# Altium schematic symbol library radxa_cm5_io_board_v2200_SCH-1_Library.SchLib: 112 symbols
Pins are listed as number, name and electrical type; pins without a type are passive.

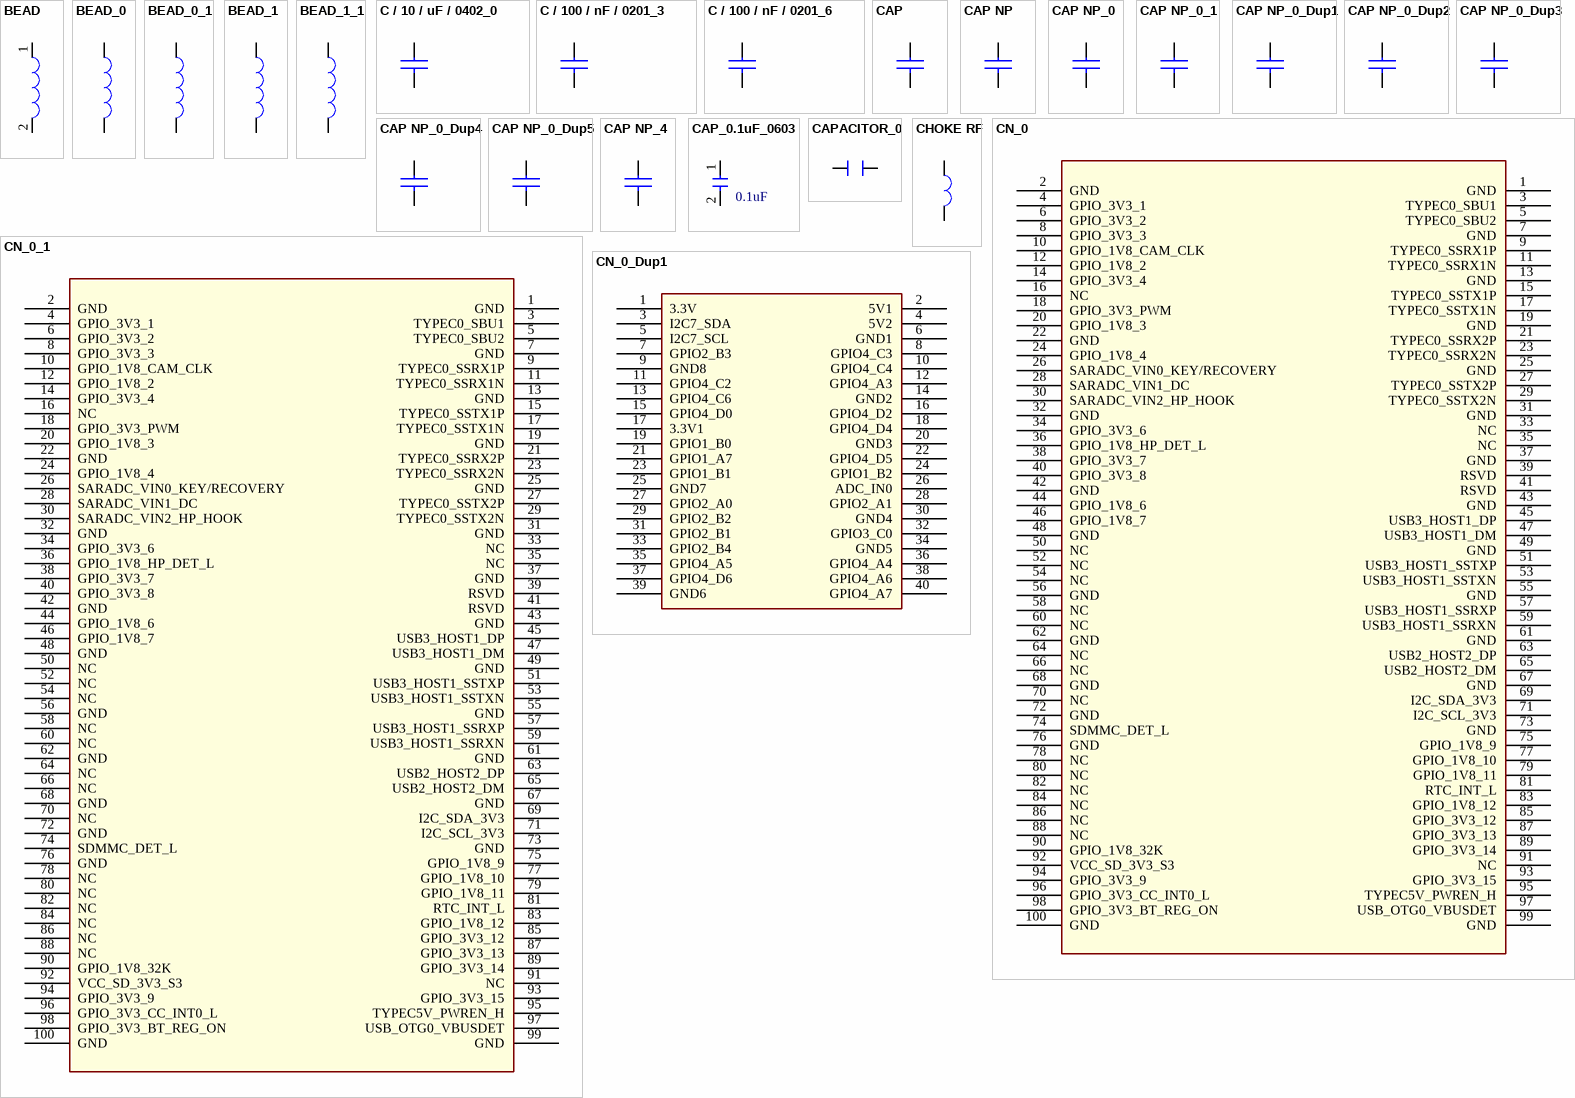
[diagram p0: symbols BEAD to CN_0_Dup1]

## BEAD
designator FB?
pins: 1, 2

## BEAD_0
designator FB?
pins: 1, 2

## BEAD_0_1
designator FB?
pins: 1, 2

## BEAD_1
designator FB?
pins: 1, 2

## BEAD_1_1
designator FB?
pins: 1, 2

## C / 10 / uF / 0402_0
designator C?
footprint C0402
pins: 1, 2

## C / 100 / nF / 0201_3
designator C?
footprint C0201
pins: 1, 2

## C / 100 / nF / 0201_6
designator C?
footprint C0201
pins: 1, 2

## CAP
designator C?
pins: 1, 2

## CAP NP
designator C?
footprint C0402
pins: 1, 2

## CAP NP_0
designator C?
pins: 1, 2

## CAP NP_0_1
designator C?
pins: 1, 2

## CAP NP_0_Dup1
designator C?
pins: 1, 2

## CAP NP_0_Dup2
designator C?
pins: 1, 2

## CAP NP_0_Dup3
designator C?
pins: 1, 2

## CAP NP_0_Dup4
designator C?
pins: 1, 2

## CAP NP_0_Dup5
designator C?
pins: 1, 2

## CAP NP_4
designator C?
pins: 1, 2

## CAP_0.1uF_0603
designator CB?, comment 0.1uF
footprint C0603
pins: 1, 2

## CAPACITOR_0
designator C?
pins: 1, 2

## CHOKE RF
designator L?
pins: 1, 2

## CN_0
designator CN?
pins: 1 GND, 2 GND, 3 TYPEC0_SBU1, 4 GPIO_3V3_1, 5 TYPEC0_SBU2, 6 GPIO_3V3_2, 7 GND, 8 GPIO_3V3_3, 9 TYPEC0_SSRX1P, 10 GPIO_1V8_CAM_CLK, 11 TYPEC0_SSRX1N, 12 GPIO_1V8_2, 13 GND, 14 GPIO_3V3_4, 15 TYPEC0_SSTX1P, 16 NC, 17 TYPEC0_SSTX1N, 18 GPIO_3V3_PWM, 19 GND, 20 GPIO_1V8_3, 21 TYPEC0_SSRX2P, 22 GND, 23 TYPEC0_SSRX2N, 24 GPIO_1V8_4, 25 GND, 26 SARADC_VIN0_KEY/RECOVERY, 27 TYPEC0_SSTX2P, 28 SARADC_VIN1_DC, 29 TYPEC0_SSTX2N, 30 SARADC_VIN2_HP_HOOK, 31 GND, 32 GND, 33 NC, 34 GPIO_3V3_6, 35 NC, 36 GPIO_1V8_HP_DET_L, 37 GND, 38 GPIO_3V3_7, 39 RSVD, 40 GPIO_3V3_8, 41 RSVD, 42 GND, 43 GND, 44 GPIO_1V8_6, 45 USB3_HOST1_DP, 46 GPIO_1V8_7, 47 USB3_HOST1_DM, 48 GND, 49 GND, 50 NC, 51 USB3_HOST1_SSTXP, 52 NC, 53 USB3_HOST1_SSTXN, 54 NC, 55 GND, 56 GND, 57 USB3_HOST1_SSRXP, 58 NC, 59 USB3_HOST1_SSRXN, 60 NC, 61 GND, 62 GND, 63 USB2_HOST2_DP, 64 NC, 65 USB2_HOST2_DM, 66 NC, 67 GND, 68 GND, 69 I2C_SDA_3V3, 70 NC, 71 I2C_SCL_3V3, 72 GND, 73 GND, 74 SDMMC_DET_L, 75 GPIO_1V8_9, 76 GND, 77 GPIO_1V8_10, 78 NC, 79 GPIO_1V8_11, 80 NC, 81 RTC_INT_L, 82 NC, 83 GPIO_1V8_12, 84 NC, 85 GPIO_3V3_12, 86 NC, 87 GPIO_3V3_13, 88 NC, 89 GPIO_3V3_14, 90 GPIO_1V8_32K, 91 NC, 92 VCC_SD_3V3_S3, 93 GPIO_3V3_15, 94 GPIO_3V3_9, 95 TYPEC5V_PWREN_H, 96 GPIO_3V3_CC_INT0_L, 97 USB_OTG0_VBUSDET, 98 GPIO_3V3_BT_REG_ON, 99 GND, 100 GND

## CN_0_1
designator CN?
pins: 1 GND, 2 GND, 3 TYPEC0_SBU1, 4 GPIO_3V3_1, 5 TYPEC0_SBU2, 6 GPIO_3V3_2, 7 GND, 8 GPIO_3V3_3, 9 TYPEC0_SSRX1P, 10 GPIO_1V8_CAM_CLK, 11 TYPEC0_SSRX1N, 12 GPIO_1V8_2, 13 GND, 14 GPIO_3V3_4, 15 TYPEC0_SSTX1P, 16 NC, 17 TYPEC0_SSTX1N, 18 GPIO_3V3_PWM, 19 GND, 20 GPIO_1V8_3, 21 TYPEC0_SSRX2P, 22 GND, 23 TYPEC0_SSRX2N, 24 GPIO_1V8_4, 25 GND, 26 SARADC_VIN0_KEY/RECOVERY, 27 TYPEC0_SSTX2P, 28 SARADC_VIN1_DC, 29 TYPEC0_SSTX2N, 30 SARADC_VIN2_HP_HOOK, 31 GND, 32 GND, 33 NC, 34 GPIO_3V3_6, 35 NC, 36 GPIO_1V8_HP_DET_L, 37 GND, 38 GPIO_3V3_7, 39 RSVD, 40 GPIO_3V3_8, 41 RSVD, 42 GND, 43 GND, 44 GPIO_1V8_6, 45 USB3_HOST1_DP, 46 GPIO_1V8_7, 47 USB3_HOST1_DM, 48 GND, 49 GND, 50 NC, 51 USB3_HOST1_SSTXP, 52 NC, 53 USB3_HOST1_SSTXN, 54 NC, 55 GND, 56 GND, 57 USB3_HOST1_SSRXP, 58 NC, 59 USB3_HOST1_SSRXN, 60 NC, 61 GND, 62 GND, 63 USB2_HOST2_DP, 64 NC, 65 USB2_HOST2_DM, 66 NC, 67 GND, 68 GND, 69 I2C_SDA_3V3, 70 NC, 71 I2C_SCL_3V3, 72 GND, 73 GND, 74 SDMMC_DET_L, 75 GPIO_1V8_9, 76 GND, 77 GPIO_1V8_10, 78 NC, 79 GPIO_1V8_11, 80 NC, 81 RTC_INT_L, 82 NC, 83 GPIO_1V8_12, 84 NC, 85 GPIO_3V3_12, 86 NC, 87 GPIO_3V3_13, 88 NC, 89 GPIO_3V3_14, 90 GPIO_1V8_32K, 91 NC, 92 VCC_SD_3V3_S3, 93 GPIO_3V3_15, 94 GPIO_3V3_9, 95 TYPEC5V_PWREN_H, 96 GPIO_3V3_CC_INT0_L, 97 USB_OTG0_VBUSDET, 98 GPIO_3V3_BT_REG_ON, 99 GND, 100 GND

## CN_0_Dup1
designator CN?
pins: 1 3.3V, 2 5V1, 3 I2C7_SDA, 4 5V2, 5 I2C7_SCL, 6 GND1, 7 GPIO2_B3, 8 GPIO4_C3, 9 GND8, 10 GPIO4_C4, 11 GPIO4_C2, 12 GPIO4_A3, 13 GPIO4_C6, 14 GND2, 15 GPIO4_D0, 16 GPIO4_D2, 17 3.3V1, 18 GPIO4_D4, 19 GPIO1_B0, 20 GND3, 21 GPIO1_A7, 22 GPIO4_D5, 23 GPIO1_B1, 24 GPIO1_B2, 25 GND7, 26 ADC_IN0, 27 GPIO2_A0, 28 GPIO2_A1, 29 GPIO2_B2, 30 GND4, 31 GPIO2_B1, 32 GPIO3_C0, 33 GPIO2_B4, 34 GND5, 35 GPIO4_A5, 36 GPIO4_A4, 37 GPIO4_D6, 38 GPIO4_A6, 39 GND6, 40 GPIO4_A7

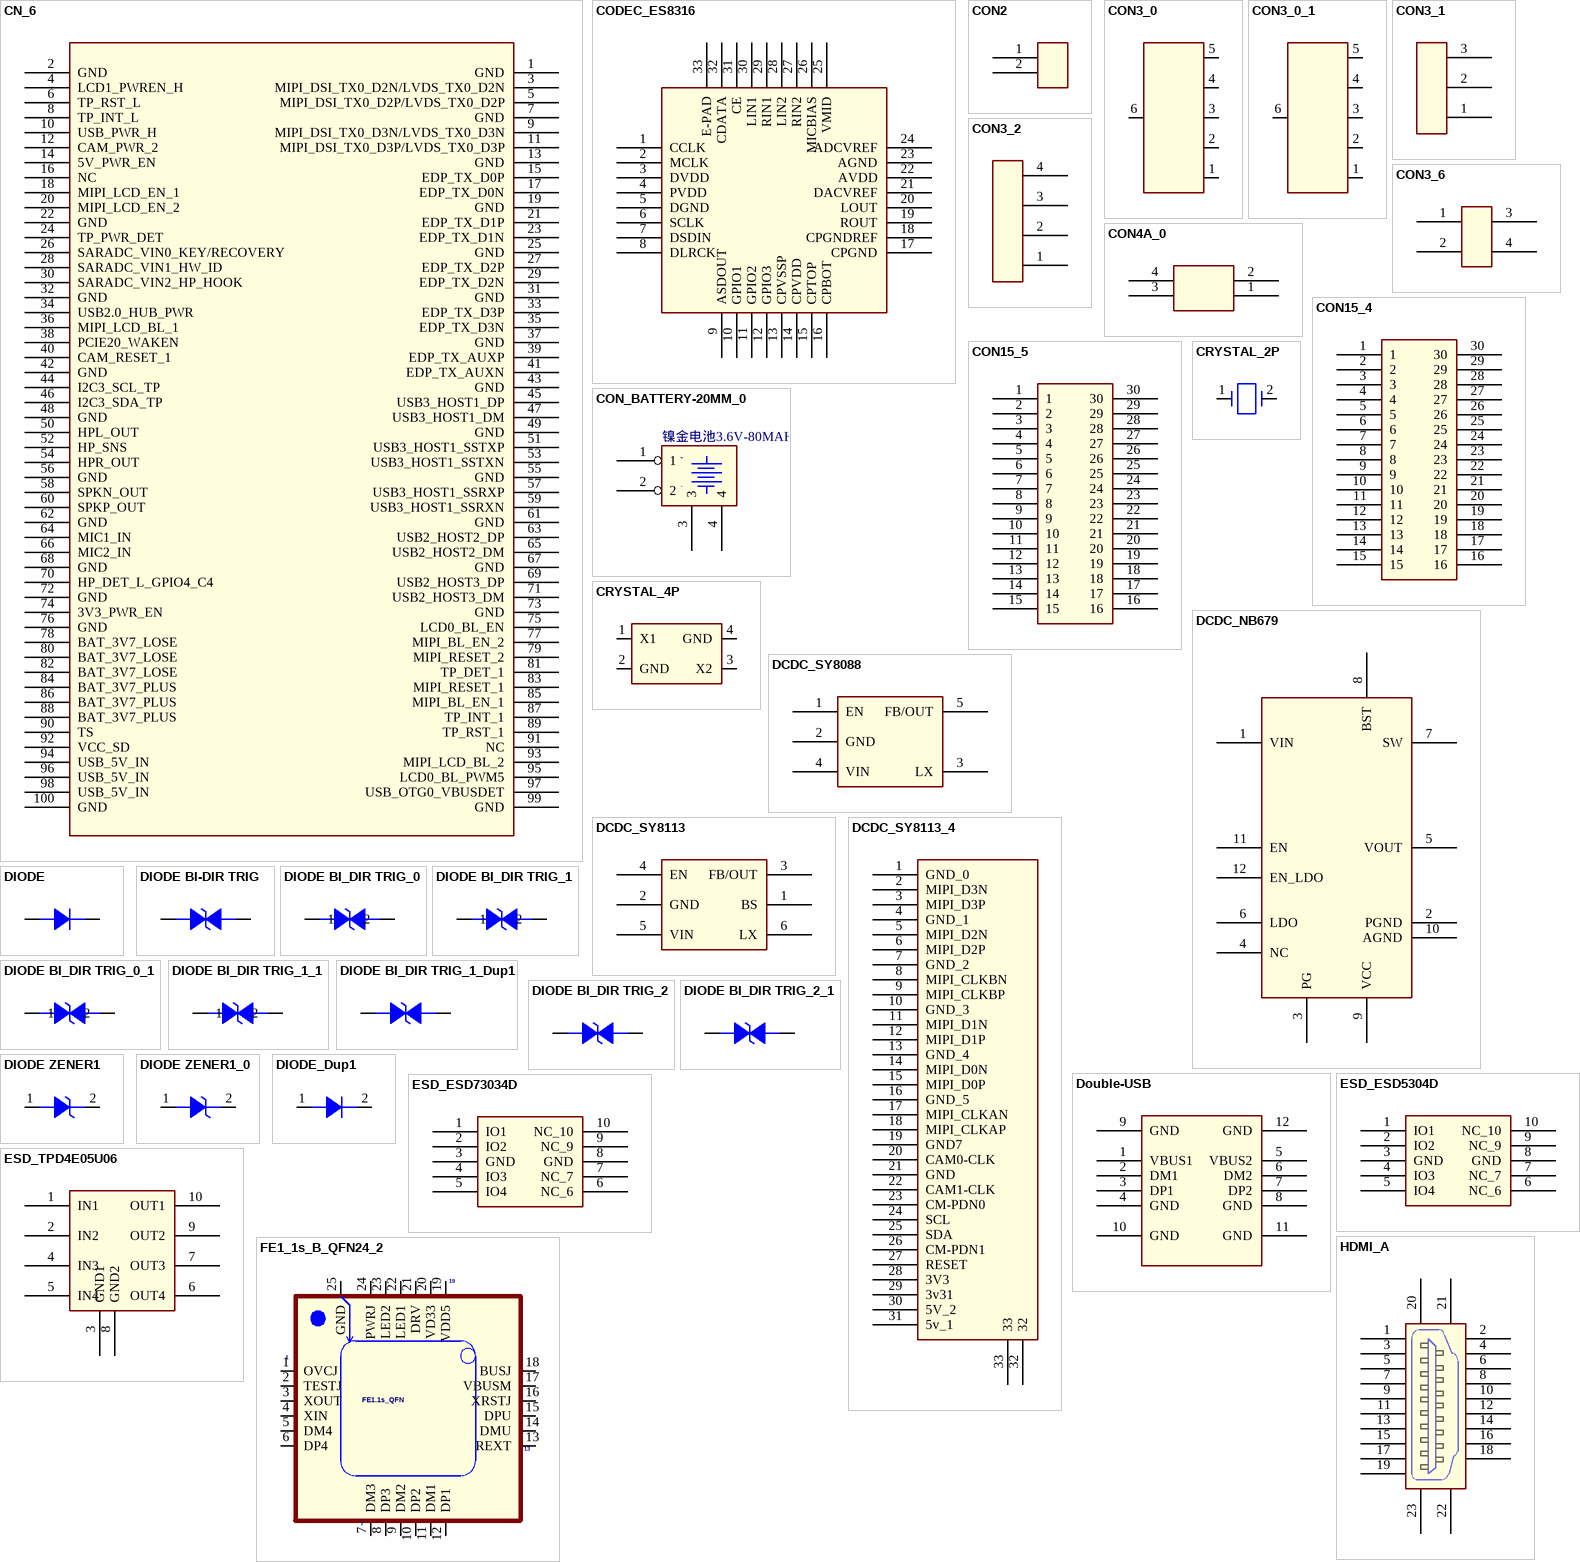
[diagram p1: symbols CN_6 to HDMI_A]

## CN_6
designator CN?
pins: 1 GND, 2 GND, 3 MIPI_DSI_TX0_D2N/LVDS_TX0_D2N, 4 LCD1_PWREN_H, 5 MIPI_DSI_TX0_D2P/LVDS_TX0_D2P, 6 TP_RST_L, 7 GND, 8 TP_INT_L, 9 MIPI_DSI_TX0_D3N/LVDS_TX0_D3N, 10 USB_PWR_H, 11 MIPI_DSI_TX0_D3P/LVDS_TX0_D3P, 12 CAM_PWR_2, 13 GND, 14 5V_PWR_EN, 15 EDP_TX_D0P, 16 NC, 17 EDP_TX_D0N, 18 MIPI_LCD_EN_1, 19 GND, 20 MIPI_LCD_EN_2, 21 EDP_TX_D1P, 22 GND, 23 EDP_TX_D1N, 24 TP_PWR_DET, 25 GND, 26 SARADC_VIN0_KEY/RECOVERY, 27 EDP_TX_D2P, 28 SARADC_VIN1_HW_ID, 29 EDP_TX_D2N, 30 SARADC_VIN2_HP_HOOK, 31 GND, 32 GND, 33 EDP_TX_D3P, 34 USB2.0_HUB_PWR, 35 EDP_TX_D3N, 36 MIPI_LCD_BL_1, 37 GND, 38 PCIE20_WAKEN, 39 EDP_TX_AUXP, 40 CAM_RESET_1, 41 EDP_TX_AUXN, 42 GND, 43 GND, 44 I2C3_SCL_TP, 45 USB3_HOST1_DP, 46 I2C3_SDA_TP, 47 USB3_HOST1_DM, 48 GND, 49 GND, 50 HPL_OUT, 51 USB3_HOST1_SSTXP, 52 HP_SNS, 53 USB3_HOST1_SSTXN, 54 HPR_OUT, 55 GND, 56 GND, 57 USB3_HOST1_SSRXP, 58 SPKN_OUT, 59 USB3_HOST1_SSRXN, 60 SPKP_OUT, 61 GND, 62 GND, 63 USB2_HOST2_DP, 64 MIC1_IN, 65 USB2_HOST2_DM, 66 MIC2_IN, 67 GND, 68 GND, 69 USB2_HOST3_DP, 70 HP_DET_L_GPIO4_C4, 71 USB2_HOST3_DM, 72 GND, 73 GND, 74 3V3_PWR_EN, 75 LCD0_BL_EN, 76 GND, 77 MIPI_BL_EN_2, 78 BAT_3V7_LOSE, 79 MIPI_RESET_2, 80 BAT_3V7_LOSE, 81 TP_DET_1, 82 BAT_3V7_LOSE, 83 MIPI_RESET_1, 84 BAT_3V7_PLUS, 85 MIPI_BL_EN_1, 86 BAT_3V7_PLUS, 87 TP_INT_1, 88 BAT_3V7_PLUS, 89 TP_RST_1, 90 TS, 91 NC, 92 VCC_SD, 93 MIPI_LCD_BL_2, 94 USB_5V_IN, 95 LCD0_BL_PWM5, 96 USB_5V_IN, 97 USB_OTG0_VBUSDET, 98 USB_5V_IN, 99 GND, 100 GND

## CODEC_ES8316
designator U?
pins: 1 CCLK, 2 MCLK, 3 DVDD, 4 PVDD, 5 DGND, 6 SCLK, 7 DSDIN, 8 DLRCK, 9 ASDOUT, 10 GPIO1, 11 GPIO2, 12 GPIO3, 13 CPVSSP, 14 CPVDD, 15 CPTOP, 16 CPBOT, 17 CPGND, 18 CPGNDREF, 19 ROUT, 20 LOUT, 21 DACVREF, 22 AVDD, 23 AGND, 24 ADCVREF, 25 VMID, 26 MICBIAS, 27 RIN2, 28 LIN2, 29 RIN1, 30 LIN1, 31 CE, 32 CDATA, 33 E-PAD

## CON2
designator J?
pins: 1, 2

## CON3_0
designator J?
pins: 1, 2, 3, 4, 5, 6

## CON3_0_1
designator J?
pins: 1, 2, 3, 4, 5, 6

## CON3_1
designator J?
pins: 1, 2, 3

## CON3_2
designator J?
pins: 1, 2, 3, 4

## CON3_6
designator J?
pins: 1, 2, 3, 4

## CON4A_0
designator J?
pins: 1, 2, 3, 4

## CON15_4
designator J?
pins: 1, 2, 3, 4, 5, 6, 7, 8, 9, 10, 11, 12, 13, 14, 15, 16, 17, 18, 19, 20, 21, 22, 23, 24, 25, 26, 27, 28, 29, 30

## CON15_5
designator J?
pins: 1, 2, 3, 4, 5, 6, 7, 8, 9, 10, 11, 12, 13, 14, 15, 16, 17, 18, 19, 20, 21, 22, 23, 24, 25, 26, 27, 28, 29, 30

## CON_BATTERY-20MM_0
designator U?, comment 镍金电池3.6V-80MAH
footprint BATTERY-20MM
pins: 1, 2, 3, 4
text: +; -

## CRYSTAL_2P
designator Y?
pins: 1, 2

## CRYSTAL_4P
designator Y?
footprint CRY-3225
pins: 1 X1, 2 GND (power), 3 X2, 4 GND (power)

## DCDC_NB679
designator U?
footprint QFN12_3R00X2R00X0R90
pins: 1 VIN, 2 PGND, 3 PG, 4 NC, 5 VOUT, 6 LDO, 7 SW, 8 BST, 9 VCC, 10 AGND, 11 EN, 12 EN_LDO

## DCDC_SY8088
designator U?
pins: 1 EN, 2 GND, 3 LX, 4 VIN, 5 FB/OUT

## DCDC_SY8113
designator U?
pins: 1 BS, 2 GND, 3 FB/OUT, 4 EN, 5 VIN, 6 LX

## DCDC_SY8113_4
designator U?
pins: 1 GND_0, 2 MIPI_D3N, 3 MIPI_D3P, 4 GND_1, 5 MIPI_D2N, 6 MIPI_D2P, 7 GND_2, 8 MIPI_CLKBN, 9 MIPI_CLKBP, 10 GND_3, 11 MIPI_D1N, 12 MIPI_D1P, 13 GND_4, 14 MIPI_D0N, 15 MIPI_D0P, 16 GND_5, 17 MIPI_CLKAN, 18 MIPI_CLKAP, 19 GND7, 20 CAM0-CLK, 21 GND, 22 CAM1-CLK, 23 CM-PDN0, 24 SCL, 25 SDA, 26 CM-PDN1, 27 RESET, 28 3V3, 29 3v31, 30 5V_2, 31 5v_1, 32, 33

## DIODE
designator D?
pins: 1 A, 2 K

## DIODE BI-DIR TRIG
designator D?
pins: 1, 2

## DIODE BI_DIR TRIG_0
designator ED?
pins: 1, 2

## DIODE BI_DIR TRIG_0_1
designator ED?
pins: 1, 2

## DIODE BI_DIR TRIG_1
designator ED?
pins: 1, 2

## DIODE BI_DIR TRIG_1_1
designator ED?
pins: 1, 2

## DIODE BI_DIR TRIG_1_Dup1
designator ED?
pins: 1, 2

## DIODE BI_DIR TRIG_2
designator ED?
pins: 1, 2

## DIODE BI_DIR TRIG_2_1
designator ED?
pins: 1, 2

## DIODE ZENER1
designator D?
pins: 1 ANODE, 2 CATHODE

## DIODE ZENER1_0
designator D?
pins: 1 ANODE, 2 CATHODE

## DIODE_Dup1
designator D?
pins: 1 A, 2 K

## Double-USB
designator U?
footprint USB_DUAL
pins: 1 VBUS1, 2 DM1, 3 DP1, 4 GND, 5 VBUS2, 6 DM2, 7 DP2, 8 GND, 9 GND, 10 GND, 11 GND, 12 GND

## ESD_ESD5304D
designator U?
pins: 1 IO1, 2 IO2, 3 GND (power), 4 IO3, 5 IO4, 6 NC_6, 7 NC_7, 8 GND (power), 9 NC_9, 10 NC_10

## ESD_ESD73034D
designator U?
pins: 1 IO1, 2 IO2, 3 GND (power), 4 IO3, 5 IO4, 6 NC_6, 7 NC_7, 8 GND (power), 9 NC_9, 10 NC_10

## ESD_TPD4E05U06
designator U?
pins: 1 IN1, 2 IN2, 3 GND1, 4 IN3, 5 IN4, 6 OUT4, 7 OUT3, 8 GND2, 9 OUT2, 10 OUT1

## FE1_1s_B_QFN24_2
designator U?, comment FE1.1s_QFN
pins: 1 OVCJ, 2 TESTJ, 3 XOUT, 4 XIN, 5 DM4, 6 DP4, 7 DM3, 8 DP3, 9 DM2, 10 DP2, 11 DM1, 12 DP1, 13 REXT, 14 DMU, 15 DPU, 16 XRSTJ, 17 VBUSM, 18 BUSJ, 19 VDD5, 20 VD33, 21 DRV, 22 LED1, 23 LED2, 24 PWRJ, 25 GND (power)

## HDMI_A
designator J?
pins: 1 $PIN0, 2, 3, 4, 5, 6, 7, 8, 9, 10, 11, 12, 13, 14, 15, 16, 17, 18, 19, 20, 21, 22, 23

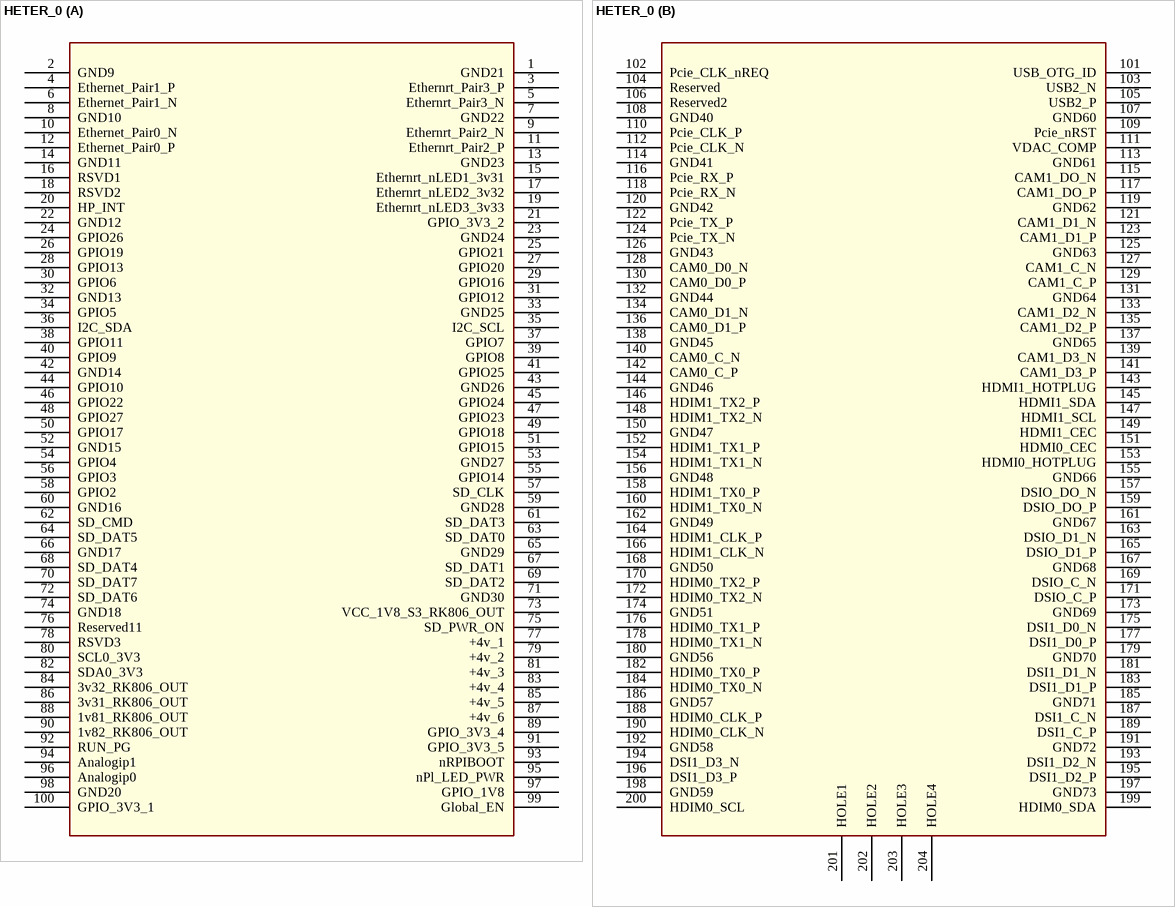
[diagram p2: symbol HETER_0]

## HETER_0
designator U?
part A pins: 1 GND21, 2 GND9, 3 Ethernrt_Pair3_P, 4 Ethernet_Pair1_P, 5 Ethernrt_Pair3_N, 6 Ethernet_Pair1_N, 7 GND22, 8 GND10, 9 Ethernrt_Pair2_N, 10 Ethernet_Pair0_N, 11 Ethernrt_Pair2_P, 12 Ethernet_Pair0_P, 13 GND23, 14 GND11, 15 Ethernrt_nLED1_3v31, 16 RSVD1, 17 Ethernrt_nLED2_3v32, 18 RSVD2, 19 Ethernrt_nLED3_3v33, 20 HP_INT, 21 GPIO_3V3_2, 22 GND12, 23 GND24, 24 GPIO26, 25 GPIO21, 26 GPIO19, 27 GPIO20, 28 GPIO13, 29 GPIO16, 30 GPIO6, 31 GPIO12, 32 GND13, 33 GND25, 34 GPIO5, 35 I2C_SCL, 36 I2C_SDA, 37 GPIO7, 38 GPIO11, 39 GPIO8, 40 GPIO9, 41 GPIO25, 42 GND14, 43 GND26, 44 GPIO10, 45 GPIO24, 46 GPIO22, 47 GPIO23, 48 GPIO27, 49 GPIO18, 50 GPIO17, 51 GPIO15, 52 GND15, 53 GND27, 54 GPIO4, 55 GPIO14, 56 GPIO3, 57 SD_CLK, 58 GPIO2, 59 GND28, 60 GND16, 61 SD_DAT3, 62 SD_CMD, 63 SD_DAT0, 64 SD_DAT5, 65 GND29, 66 GND17, 67 SD_DAT1, 68 SD_DAT4, 69 SD_DAT2, 70 SD_DAT7, 71 GND30, 72 SD_DAT6, 73 VCC_1V8_S3_RK806_OUT, 74 GND18, 75 SD_PWR_ON, 76 Reserved11, 77 +4v_1, 78 RSVD3, 79 +4v_2, 80 SCL0_3V3, 81 +4v_3, 82 SDA0_3V3, 83 +4v_4, 84 3v32_RK806_OUT, 85 +4v_5, 86 3v31_RK806_OUT, 87 +4v_6, 88 1v81_RK806_OUT, 89 GPIO_3V3_4, 90 1v82_RK806_OUT, 91 GPIO_3V3_5, 92 RUN_PG, 93 nRPIBOOT, 94 Analogip1, 95 nPl_LED_PWR, 96 Analogip0, 97 GPIO_1V8, 98 GND20, 99 Global_EN, 100 GPIO_3V3_1
part B pins: 101 USB_OTG_ID, 102 Pcie_CLK_nREQ, 103 USB2_N, 104 Reserved, 105 USB2_P, 106 Reserved2, 107 GND60, 108 GND40, 109 Pcie_nRST, 110 Pcie_CLK_P, 111 VDAC_COMP, 112 Pcie_CLK_N, 113 GND61, 114 GND41, 115 CAM1_DO_N, 116 Pcie_RX_P, 117 CAM1_DO_P, 118 Pcie_RX_N, 119 GND62, 120 GND42, 121 CAM1_D1_N, 122 Pcie_TX_P, 123 CAM1_D1_P, 124 Pcie_TX_N, 125 GND63, 126 GND43, 127 CAM1_C_N, 128 CAM0_D0_N, 129 CAM1_C_P, 130 CAM0_D0_P, 131 GND64, 132 GND44, 133 CAM1_D2_N, 134 CAM0_D1_N, 135 CAM1_D2_P, 136 CAM0_D1_P, 137 GND65, 138 GND45, 139 CAM1_D3_N, 140 CAM0_C_N, 141 CAM1_D3_P, 142 CAM0_C_P, 143 HDMI1_HOTPLUG, 144 GND46, 145 HDMI1_SDA, 146 HDIM1_TX2_P, 147 HDMI1_SCL, 148 HDIM1_TX2_N, 149 HDMI1_CEC, 150 GND47, 151 HDMI0_CEC, 152 HDIM1_TX1_P, 153 HDMI0_HOTPLUG, 154 HDIM1_TX1_N, 155 GND66, 156 GND48, 157 DSIO_DO_N, 158 HDIM1_TX0_P, 159 DSIO_DO_P, 160 HDIM1_TX0_N, 161 GND67, 162 GND49, 163 DSIO_D1_N, 164 HDIM1_CLK_P, 165 DSIO_D1_P, 166 HDIM1_CLK_N, 167 GND68, 168 GND50, 169 DSIO_C_N, 170 HDIM0_TX2_P, 171 DSIO_C_P, 172 HDIM0_TX2_N, 173 GND69, 174 GND51, 175 DSI1_D0_N, 176 HDIM0_TX1_P, 177 DSI1_D0_P, 178 HDIM0_TX1_N, 179 GND70, 180 GND56, 181 DSI1_D1_N, 182 HDIM0_TX0_P, 183 DSI1_D1_P, 184 HDIM0_TX0_N, 185 GND71, 186 GND57, 187 DSI1_C_N, 188 HDIM0_CLK_P, 189 DSI1_C_P, 190 HDIM0_CLK_N, 191 GND72, 192 GND58, 193 DSI1_D2_N, 194 DSI1_D3_N, 195 DSI1_D2_P, 196 DSI1_D3_P, 197 GND73, 198 GND59, 199 HDIM0_SDA, 200 HDIM0_SCL, 201 HOLE1, 202 HOLE2, 203 HOLE3, 204 HOLE4

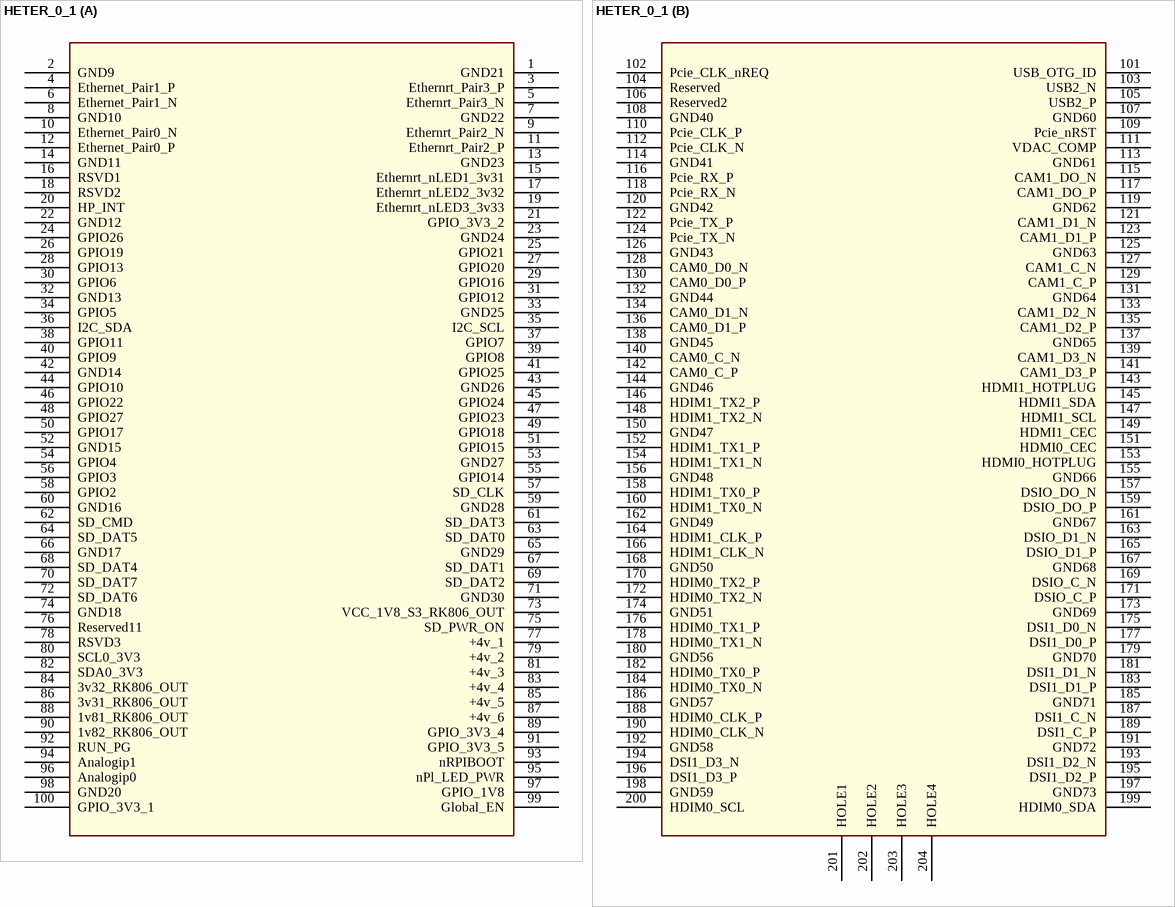
[diagram p3: symbol HETER_0_1]

## HETER_0_1
designator U?
part A pins: 1 GND21, 2 GND9, 3 Ethernrt_Pair3_P, 4 Ethernet_Pair1_P, 5 Ethernrt_Pair3_N, 6 Ethernet_Pair1_N, 7 GND22, 8 GND10, 9 Ethernrt_Pair2_N, 10 Ethernet_Pair0_N, 11 Ethernrt_Pair2_P, 12 Ethernet_Pair0_P, 13 GND23, 14 GND11, 15 Ethernrt_nLED1_3v31, 16 RSVD1, 17 Ethernrt_nLED2_3v32, 18 RSVD2, 19 Ethernrt_nLED3_3v33, 20 HP_INT, 21 GPIO_3V3_2, 22 GND12, 23 GND24, 24 GPIO26, 25 GPIO21, 26 GPIO19, 27 GPIO20, 28 GPIO13, 29 GPIO16, 30 GPIO6, 31 GPIO12, 32 GND13, 33 GND25, 34 GPIO5, 35 I2C_SCL, 36 I2C_SDA, 37 GPIO7, 38 GPIO11, 39 GPIO8, 40 GPIO9, 41 GPIO25, 42 GND14, 43 GND26, 44 GPIO10, 45 GPIO24, 46 GPIO22, 47 GPIO23, 48 GPIO27, 49 GPIO18, 50 GPIO17, 51 GPIO15, 52 GND15, 53 GND27, 54 GPIO4, 55 GPIO14, 56 GPIO3, 57 SD_CLK, 58 GPIO2, 59 GND28, 60 GND16, 61 SD_DAT3, 62 SD_CMD, 63 SD_DAT0, 64 SD_DAT5, 65 GND29, 66 GND17, 67 SD_DAT1, 68 SD_DAT4, 69 SD_DAT2, 70 SD_DAT7, 71 GND30, 72 SD_DAT6, 73 VCC_1V8_S3_RK806_OUT, 74 GND18, 75 SD_PWR_ON, 76 Reserved11, 77 +4v_1, 78 RSVD3, 79 +4v_2, 80 SCL0_3V3, 81 +4v_3, 82 SDA0_3V3, 83 +4v_4, 84 3v32_RK806_OUT, 85 +4v_5, 86 3v31_RK806_OUT, 87 +4v_6, 88 1v81_RK806_OUT, 89 GPIO_3V3_4, 90 1v82_RK806_OUT, 91 GPIO_3V3_5, 92 RUN_PG, 93 nRPIBOOT, 94 Analogip1, 95 nPl_LED_PWR, 96 Analogip0, 97 GPIO_1V8, 98 GND20, 99 Global_EN, 100 GPIO_3V3_1
part B pins: 101 USB_OTG_ID, 102 Pcie_CLK_nREQ, 103 USB2_N, 104 Reserved, 105 USB2_P, 106 Reserved2, 107 GND60, 108 GND40, 109 Pcie_nRST, 110 Pcie_CLK_P, 111 VDAC_COMP, 112 Pcie_CLK_N, 113 GND61, 114 GND41, 115 CAM1_DO_N, 116 Pcie_RX_P, 117 CAM1_DO_P, 118 Pcie_RX_N, 119 GND62, 120 GND42, 121 CAM1_D1_N, 122 Pcie_TX_P, 123 CAM1_D1_P, 124 Pcie_TX_N, 125 GND63, 126 GND43, 127 CAM1_C_N, 128 CAM0_D0_N, 129 CAM1_C_P, 130 CAM0_D0_P, 131 GND64, 132 GND44, 133 CAM1_D2_N, 134 CAM0_D1_N, 135 CAM1_D2_P, 136 CAM0_D1_P, 137 GND65, 138 GND45, 139 CAM1_D3_N, 140 CAM0_C_N, 141 CAM1_D3_P, 142 CAM0_C_P, 143 HDMI1_HOTPLUG, 144 GND46, 145 HDMI1_SDA, 146 HDIM1_TX2_P, 147 HDMI1_SCL, 148 HDIM1_TX2_N, 149 HDMI1_CEC, 150 GND47, 151 HDMI0_CEC, 152 HDIM1_TX1_P, 153 HDMI0_HOTPLUG, 154 HDIM1_TX1_N, 155 GND66, 156 GND48, 157 DSIO_DO_N, 158 HDIM1_TX0_P, 159 DSIO_DO_P, 160 HDIM1_TX0_N, 161 GND67, 162 GND49, 163 DSIO_D1_N, 164 HDIM1_CLK_P, 165 DSIO_D1_P, 166 HDIM1_CLK_N, 167 GND68, 168 GND50, 169 DSIO_C_N, 170 HDIM0_TX2_P, 171 DSIO_C_P, 172 HDIM0_TX2_N, 173 GND69, 174 GND51, 175 DSI1_D0_N, 176 HDIM0_TX1_P, 177 DSI1_D0_P, 178 HDIM0_TX1_N, 179 GND70, 180 GND56, 181 DSI1_D1_N, 182 HDIM0_TX0_P, 183 DSI1_D1_P, 184 HDIM0_TX0_N, 185 GND71, 186 GND57, 187 DSI1_C_N, 188 HDIM0_CLK_P, 189 DSI1_C_P, 190 HDIM0_CLK_N, 191 GND72, 192 GND58, 193 DSI1_D2_N, 194 DSI1_D3_N, 195 DSI1_D2_P, 196 DSI1_D3_P, 197 GND73, 198 GND59, 199 HDIM0_SDA, 200 HDIM0_SCL, 201 HOLE1, 202 HOLE2, 203 HOLE3, 204 HOLE4

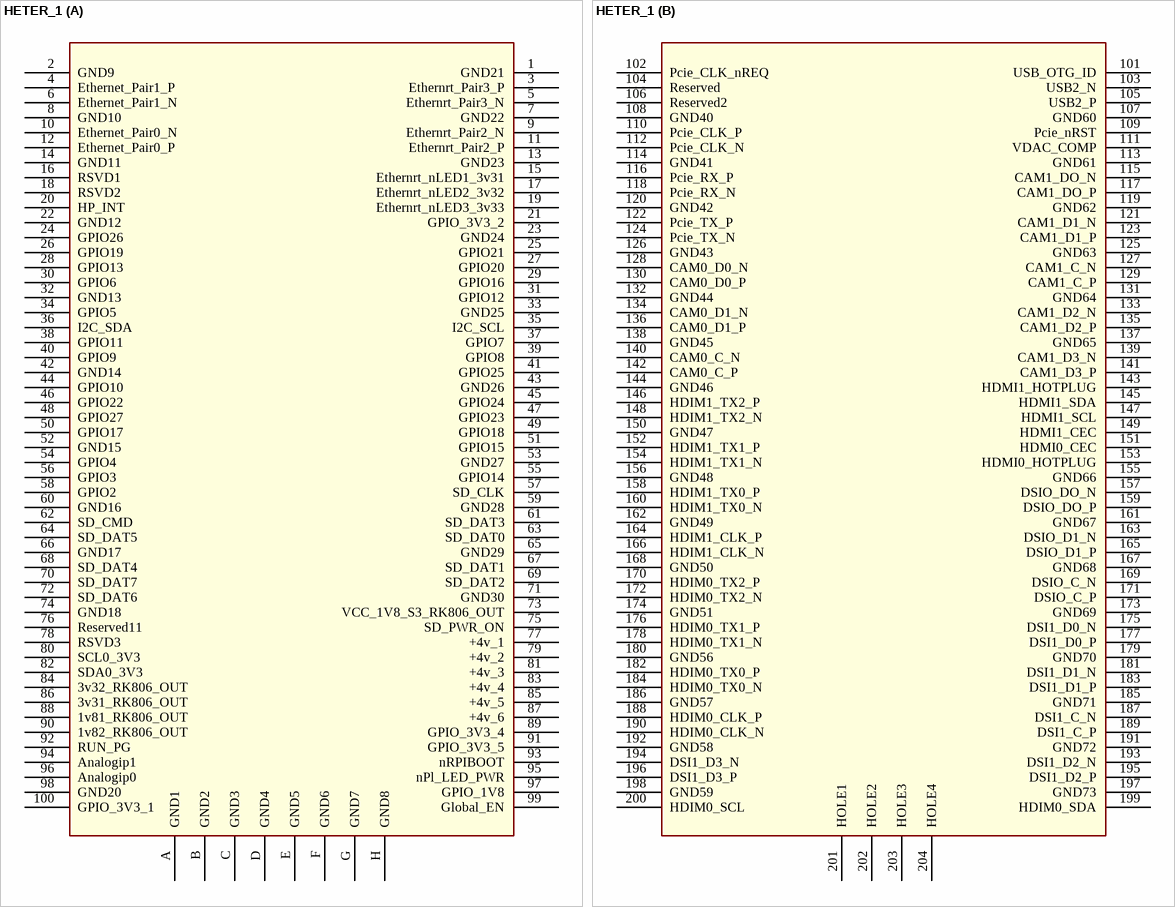
[diagram p4: symbol HETER_1]

## HETER_1
designator U?
part A pins: 1 GND21, 2 GND9, 3 Ethernrt_Pair3_P, 4 Ethernet_Pair1_P, 5 Ethernrt_Pair3_N, 6 Ethernet_Pair1_N, 7 GND22, 8 GND10, 9 Ethernrt_Pair2_N, 10 Ethernet_Pair0_N, 11 Ethernrt_Pair2_P, 12 Ethernet_Pair0_P, 13 GND23, 14 GND11, 15 Ethernrt_nLED1_3v31, 16 RSVD1, 17 Ethernrt_nLED2_3v32, 18 RSVD2, 19 Ethernrt_nLED3_3v33, 20 HP_INT, 21 GPIO_3V3_2, 22 GND12, 23 GND24, 24 GPIO26, 25 GPIO21, 26 GPIO19, 27 GPIO20, 28 GPIO13, 29 GPIO16, 30 GPIO6, 31 GPIO12, 32 GND13, 33 GND25, 34 GPIO5, 35 I2C_SCL, 36 I2C_SDA, 37 GPIO7, 38 GPIO11, 39 GPIO8, 40 GPIO9, 41 GPIO25, 42 GND14, 43 GND26, 44 GPIO10, 45 GPIO24, 46 GPIO22, 47 GPIO23, 48 GPIO27, 49 GPIO18, 50 GPIO17, 51 GPIO15, 52 GND15, 53 GND27, 54 GPIO4, 55 GPIO14, 56 GPIO3, 57 SD_CLK, 58 GPIO2, 59 GND28, 60 GND16, 61 SD_DAT3, 62 SD_CMD, 63 SD_DAT0, 64 SD_DAT5, 65 GND29, 66 GND17, 67 SD_DAT1, 68 SD_DAT4, 69 SD_DAT2, 70 SD_DAT7, 71 GND30, 72 SD_DAT6, 73 VCC_1V8_S3_RK806_OUT, 74 GND18, 75 SD_PWR_ON, 76 Reserved11, 77 +4v_1, 78 RSVD3, 79 +4v_2, 80 SCL0_3V3, 81 +4v_3, 82 SDA0_3V3, 83 +4v_4, 84 3v32_RK806_OUT, 85 +4v_5, 86 3v31_RK806_OUT, 87 +4v_6, 88 1v81_RK806_OUT, 89 GPIO_3V3_4, 90 1v82_RK806_OUT, 91 GPIO_3V3_5, 92 RUN_PG, 93 nRPIBOOT, 94 Analogip1, 95 nPl_LED_PWR, 96 Analogip0, 97 GPIO_1V8, 98 GND20, 99 Global_EN, 100 GPIO_3V3_1, A GND1, B GND2, C GND3, D GND4, E GND5, F GND6, G GND7, H GND8
part B pins: 101 USB_OTG_ID, 102 Pcie_CLK_nREQ, 103 USB2_N, 104 Reserved, 105 USB2_P, 106 Reserved2, 107 GND60, 108 GND40, 109 Pcie_nRST, 110 Pcie_CLK_P, 111 VDAC_COMP, 112 Pcie_CLK_N, 113 GND61, 114 GND41, 115 CAM1_DO_N, 116 Pcie_RX_P, 117 CAM1_DO_P, 118 Pcie_RX_N, 119 GND62, 120 GND42, 121 CAM1_D1_N, 122 Pcie_TX_P, 123 CAM1_D1_P, 124 Pcie_TX_N, 125 GND63, 126 GND43, 127 CAM1_C_N, 128 CAM0_D0_N, 129 CAM1_C_P, 130 CAM0_D0_P, 131 GND64, 132 GND44, 133 CAM1_D2_N, 134 CAM0_D1_N, 135 CAM1_D2_P, 136 CAM0_D1_P, 137 GND65, 138 GND45, 139 CAM1_D3_N, 140 CAM0_C_N, 141 CAM1_D3_P, 142 CAM0_C_P, 143 HDMI1_HOTPLUG, 144 GND46, 145 HDMI1_SDA, 146 HDIM1_TX2_P, 147 HDMI1_SCL, 148 HDIM1_TX2_N, 149 HDMI1_CEC, 150 GND47, 151 HDMI0_CEC, 152 HDIM1_TX1_P, 153 HDMI0_HOTPLUG, 154 HDIM1_TX1_N, 155 GND66, 156 GND48, 157 DSIO_DO_N, 158 HDIM1_TX0_P, 159 DSIO_DO_P, 160 HDIM1_TX0_N, 161 GND67, 162 GND49, 163 DSIO_D1_N, 164 HDIM1_CLK_P, 165 DSIO_D1_P, 166 HDIM1_CLK_N, 167 GND68, 168 GND50, 169 DSIO_C_N, 170 HDIM0_TX2_P, 171 DSIO_C_P, 172 HDIM0_TX2_N, 173 GND69, 174 GND51, 175 DSI1_D0_N, 176 HDIM0_TX1_P, 177 DSI1_D0_P, 178 HDIM0_TX1_N, 179 GND70, 180 GND56, 181 DSI1_D1_N, 182 HDIM0_TX0_P, 183 DSI1_D1_P, 184 HDIM0_TX0_N, 185 GND71, 186 GND57, 187 DSI1_C_N, 188 HDIM0_CLK_P, 189 DSI1_C_P, 190 HDIM0_CLK_N, 191 GND72, 192 GND58, 193 DSI1_D2_N, 194 DSI1_D3_N, 195 DSI1_D2_P, 196 DSI1_D3_P, 197 GND73, 198 GND59, 199 HDIM0_SDA, 200 HDIM0_SCL, 201 HOLE1, 202 HOLE2, 203 HOLE3, 204 HOLE4

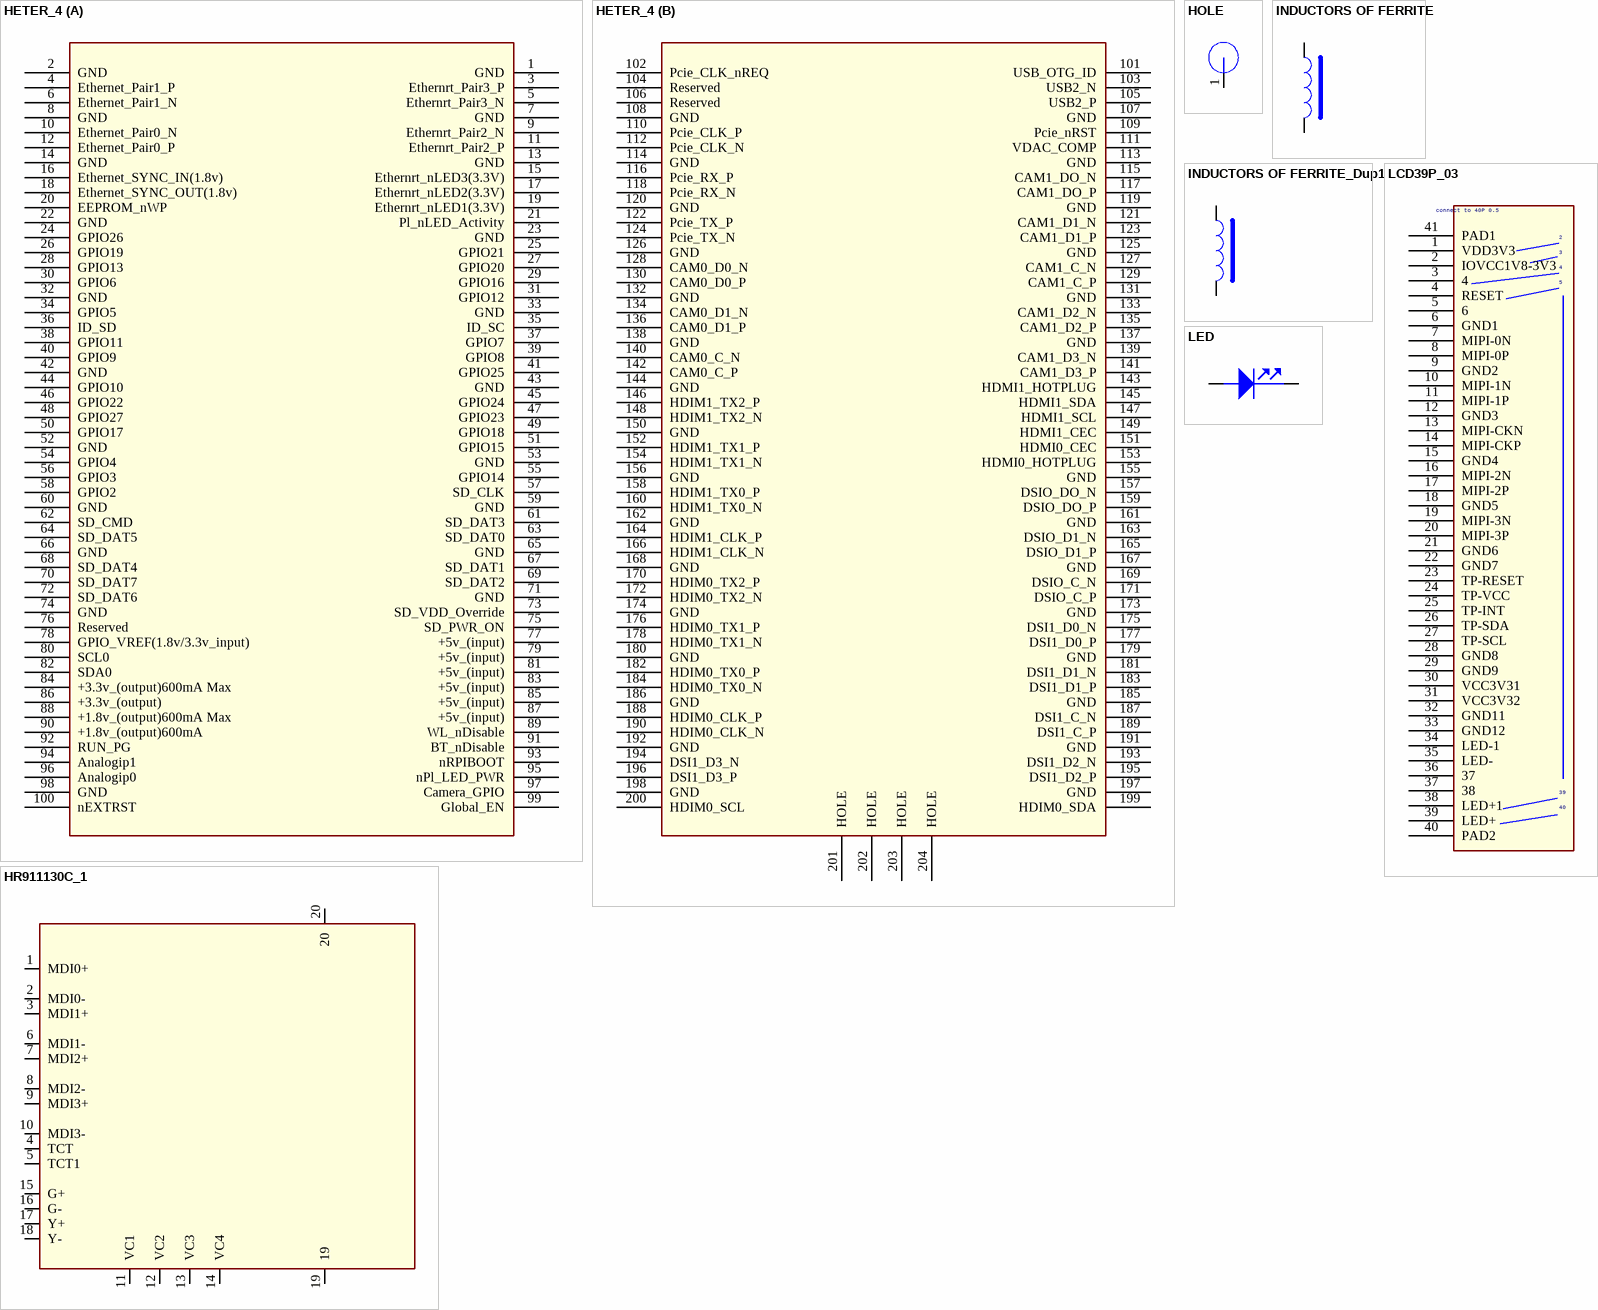
[diagram p5: symbols HETER_4 to LED]

## HETER_4
designator U?
part A pins: 1 GND, 2 GND, 3 Ethernrt_Pair3_P, 4 Ethernet_Pair1_P, 5 Ethernrt_Pair3_N, 6 Ethernet_Pair1_N, 7 GND, 8 GND, 9 Ethernrt_Pair2_N, 10 Ethernet_Pair0_N, 11 Ethernrt_Pair2_P, 12 Ethernet_Pair0_P, 13 GND, 14 GND, 15 Ethernrt_nLED3(3.3V), 16 Ethernet_SYNC_IN(1.8v), 17 Ethernrt_nLED2(3.3V), 18 Ethernet_SYNC_OUT(1.8v), 19 Ethernrt_nLED1(3.3V), 20 EEPROM_nWP, 21 Pl_nLED_Activity, 22 GND, 23 GND, 24 GPIO26, 25 GPIO21, 26 GPIO19, 27 GPIO20, 28 GPIO13, 29 GPIO16, 30 GPIO6, 31 GPIO12, 32 GND, 33 GND, 34 GPIO5, 35 ID_SC, 36 ID_SD, 37 GPIO7, 38 GPIO11, 39 GPIO8, 40 GPIO9, 41 GPIO25, 42 GND, 43 GND, 44 GPIO10, 45 GPIO24, 46 GPIO22, 47 GPIO23, 48 GPIO27, 49 GPIO18, 50 GPIO17, 51 GPIO15, 52 GND, 53 GND, 54 GPIO4, 55 GPIO14, 56 GPIO3, 57 SD_CLK, 58 GPIO2, 59 GND, 60 GND, 61 SD_DAT3, 62 SD_CMD, 63 SD_DAT0, 64 SD_DAT5, 65 GND, 66 GND, 67 SD_DAT1, 68 SD_DAT4, 69 SD_DAT2, 70 SD_DAT7, 71 GND, 72 SD_DAT6, 73 SD_VDD_Override, 74 GND, 75 SD_PWR_ON, 76 Reserved, 77 +5v_(input), 78 GPIO_VREF(1.8v/3.3v_input), 79 +5v_(input), 80 SCL0, 81 +5v_(input), 82 SDA0, 83 +5v_(input), 84 +3.3v_(output)600mA Max, 85 +5v_(input), 86 +3.3v_(output), 87 +5v_(input), 88 +1.8v_(output)600mA Max, 89 WL_nDisable, 90 +1.8v_(output)600mA , 91 BT_nDisable, 92 RUN_PG, 93 nRPIBOOT, 94 Analogip1, 95 nPl_LED_PWR, 96 Analogip0, 97 Camera_GPIO, 98 GND, 99 Global_EN, 100 nEXTRST
part B pins: 101 USB_OTG_ID, 102 Pcie_CLK_nREQ, 103 USB2_N, 104 Reserved, 105 USB2_P, 106 Reserved, 107 GND, 108 GND, 109 Pcie_nRST, 110 Pcie_CLK_P, 111 VDAC_COMP, 112 Pcie_CLK_N, 113 GND, 114 GND, 115 CAM1_DO_N, 116 Pcie_RX_P, 117 CAM1_DO_P, 118 Pcie_RX_N, 119 GND, 120 GND, 121 CAM1_D1_N, 122 Pcie_TX_P, 123 CAM1_D1_P, 124 Pcie_TX_N, 125 GND, 126 GND, 127 CAM1_C_N, 128 CAM0_D0_N, 129 CAM1_C_P, 130 CAM0_D0_P, 131 GND, 132 GND, 133 CAM1_D2_N, 134 CAM0_D1_N, 135 CAM1_D2_P, 136 CAM0_D1_P, 137 GND, 138 GND, 139 CAM1_D3_N, 140 CAM0_C_N, 141 CAM1_D3_P, 142 CAM0_C_P, 143 HDMI1_HOTPLUG, 144 GND, 145 HDMI1_SDA, 146 HDIM1_TX2_P, 147 HDMI1_SCL, 148 HDIM1_TX2_N, 149 HDMI1_CEC, 150 GND, 151 HDMI0_CEC, 152 HDIM1_TX1_P, 153 HDMI0_HOTPLUG, 154 HDIM1_TX1_N, 155 GND, 156 GND, 157 DSIO_DO_N, 158 HDIM1_TX0_P, 159 DSIO_DO_P, 160 HDIM1_TX0_N, 161 GND, 162 GND, 163 DSIO_D1_N, 164 HDIM1_CLK_P, 165 DSIO_D1_P, 166 HDIM1_CLK_N, 167 GND, 168 GND, 169 DSIO_C_N, 170 HDIM0_TX2_P, 171 DSIO_C_P, 172 HDIM0_TX2_N, 173 GND, 174 GND, 175 DSI1_D0_N, 176 HDIM0_TX1_P, 177 DSI1_D0_P, 178 HDIM0_TX1_N, 179 GND, 180 GND, 181 DSI1_D1_N, 182 HDIM0_TX0_P, 183 DSI1_D1_P, 184 HDIM0_TX0_N, 185 GND, 186 GND, 187 DSI1_C_N, 188 HDIM0_CLK_P, 189 DSI1_C_P, 190 HDIM0_CLK_N, 191 GND, 192 GND, 193 DSI1_D2_N, 194 DSI1_D3_N, 195 DSI1_D2_P, 196 DSI1_D3_P, 197 GND, 198 GND, 199 HDIM0_SDA, 200 HDIM0_SCL, 201 HOLE, 202 HOLE, 203 HOLE, 204 HOLE

## HOLE
designator H?
footprint H3.8MM
pins: 1

## HR911130C_1
designator J?
VAL: J00-0061; DESIG: 10/100 base TX LXT971A; BOI: RJ45; FAB: PULSE; DEV: CON_PULSE_J00-61; REF: J00-0061
footprint RJ45_PULSE
pins: 1 MDI0+, 2 MDI0-, 3 MDI1+, 4 TCT, 5 TCT1, 6 MDI1-, 7 MDI2+, 8 MDI2-, 9 MDI3+, 10 MDI3-, 11 VC1, 12 VC2, 13 VC3, 14 VC4, 15 G+, 16 G-, 17 Y+, 18 Y-, 19, 20

## INDUCTORS OF FERRITE
designator L?
pins: 1, 2

## INDUCTORS OF FERRITE_Dup1
designator L?
pins: 1, 2

## LCD39P_03
designator U?
pins: 1 VDD3V3, 2 IOVCC1V8-3V3, 3 4, 4 RESET, 5 6, 6 GND1, 7 MIPI-0N, 8 MIPI-0P, 9 GND2, 10 MIPI-1N, 11 MIPI-1P, 12 GND3, 13 MIPI-CKN, 14 MIPI-CKP, 15 GND4, 16 MIPI-2N, 17 MIPI-2P, 18 GND5, 19 MIPI-3N, 20 MIPI-3P, 21 GND6, 22 GND7, 23 TP-RESET, 24 TP-VCC, 25 TP-INT, 26 TP-SDA, 27 TP-SCL, 28 GND8, 29 GND9, 30 VCC3V31, 31 VCC3V32, 32 GND11, 33 GND12, 34 LED-1, 35 LED-, 36 37, 37 38, 38 LED+1, 39 LED+, 40 PAD2, 41 PAD1
text: connect to 40P 0.5

## LED
designator LED?
pins: 1 ANODE, 2 CATHODE

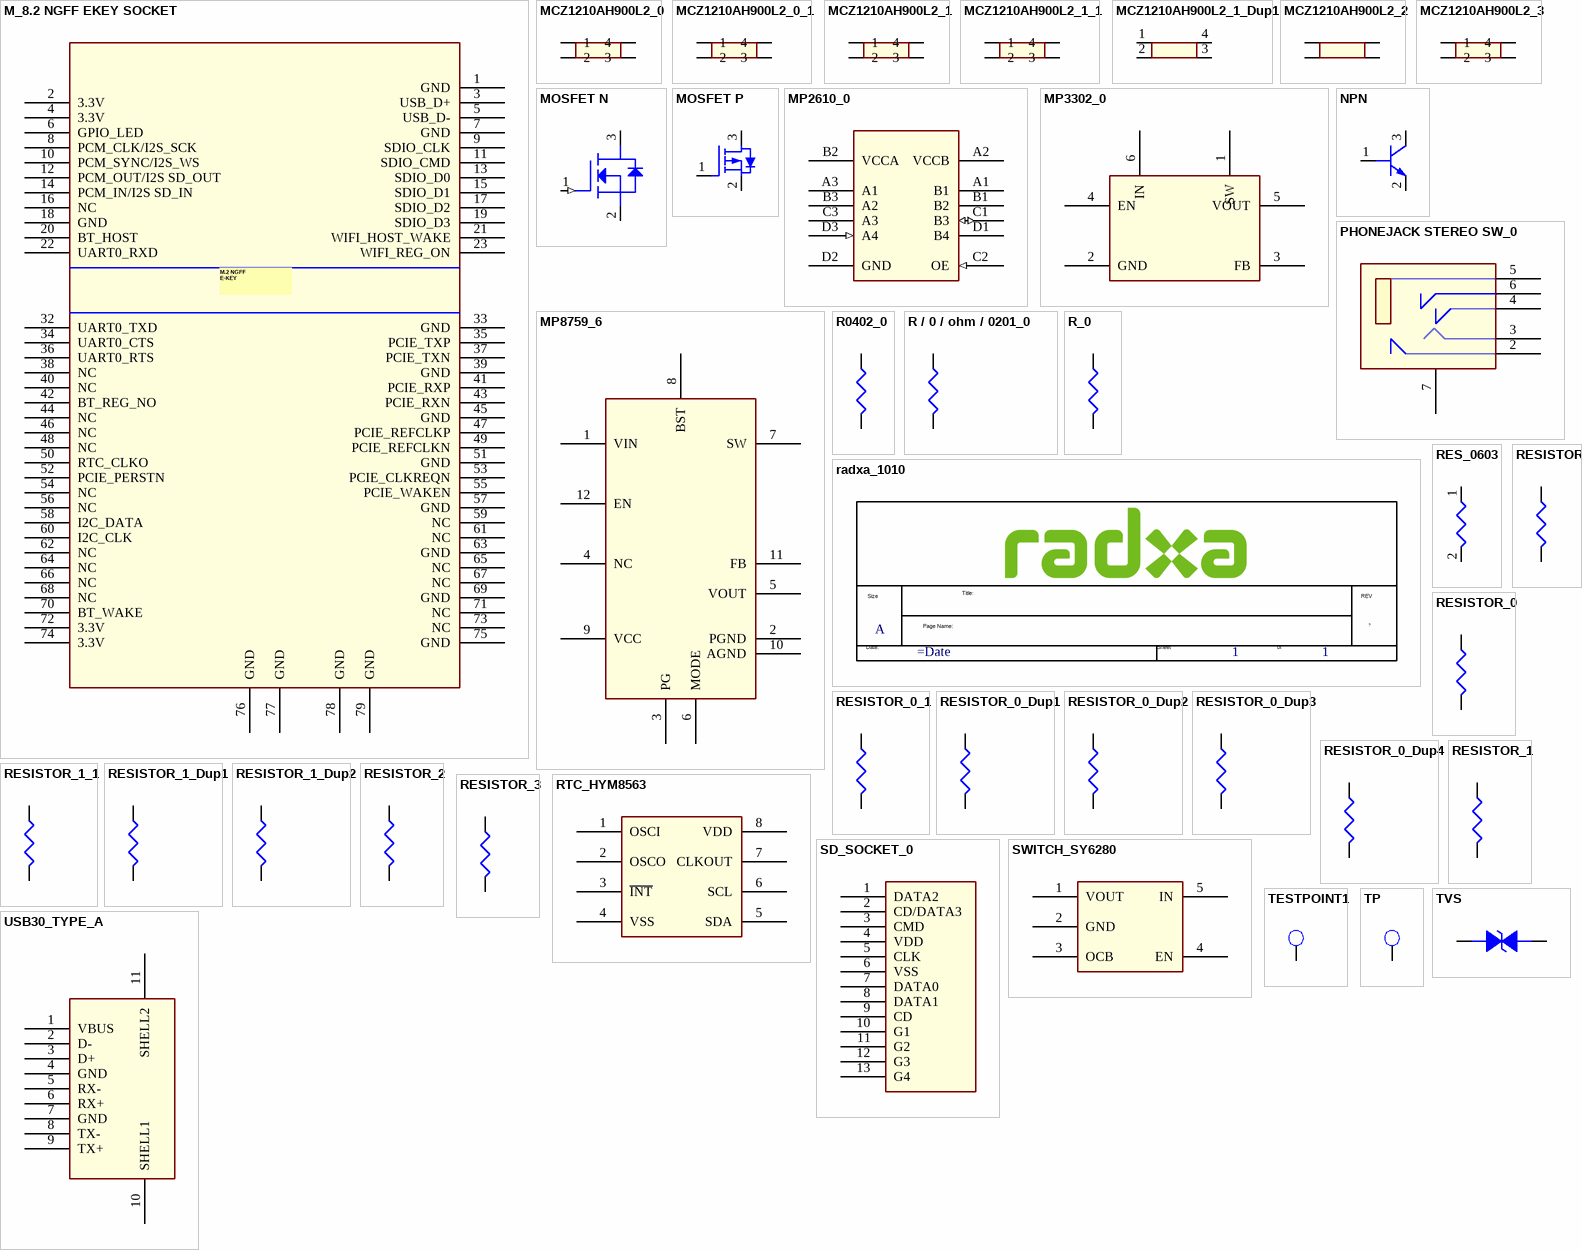
[diagram p6: symbols M_8.2 NGFF EKEY SOCKET to USB30_TYPE_A]

## M_8.2 NGFF EKEY SOCKET
designator U?
pins: 1 GND, 2 3.3V, 3 USB_D+, 4 3.3V, 5 USB_D-, 6 GPIO_LED, 7 GND, 8 PCM_CLK/I2S_SCK, 9 SDIO_CLK, 10 PCM_SYNC/I2S_WS, 11 SDIO_CMD, 12 PCM_OUT/I2S SD_OUT, 13 SDIO_D0, 14 PCM_IN/I2S SD_IN, 15 SDIO_D1, 16 NC, 17 SDIO_D2, 18 GND, 19 SDIO_D3, 20 BT_HOST, 21 WIFI_HOST_WAKE, 22 UART0_RXD, 23 WIFI_REG_ON, 32 UART0_TXD, 33 GND, 34 UART0_CTS, 35 PCIE_TXP, 36 UART0_RTS, 37 PCIE_TXN, 38 NC, 39 GND, 40 NC, 41 PCIE_RXP, 42 BT_REG_NO, 43 PCIE_RXN, 44 NC, 45 GND, 46 NC, 47 PCIE_REFCLKP, 48 NC, 49 PCIE_REFCLKN, 50 RTC_CLKO, 51 GND, 52 PCIE_PERSTN, 53 PCIE_CLKREQN, 54 NC, 55 PCIE_WAKEN, 56 NC, 57 GND, 58 I2C_DATA, 59 NC, 60 I2C_CLK, 61 NC, 62 NC, 63 GND, 64 NC, 65 NC, 66 NC, 67 NC, 68 NC, 69 GND, 70 BT_WAKE, 71 NC, 72 3.3V, 73 NC, 74 3.3V, 75 GND, 76 GND, 77 GND, 78 GND, 79 GND
text: M.2 NGFF / E-KEY

## MCZ1210AH900L2_0
designator L?
footprint MCZ1210AH900L2
pins: 1, 2, 3, 4

## MCZ1210AH900L2_0_1
designator L?
footprint MCZ1210AH900L2
pins: 1, 2, 3, 4

## MCZ1210AH900L2_1
designator L?
footprint MCZ1210AH900L2
pins: 1, 2, 3, 4

## MCZ1210AH900L2_1_1
designator L?
footprint MCZ1210AH900L2
pins: 1, 2, 3, 4

## MCZ1210AH900L2_1_Dup1
designator L?
footprint MCZ1210AH900L2
pins: 1, 2, 3, 4

## MCZ1210AH900L2_2
designator L?
footprint MCZ1210AH900L2
pins: 1, 2, 3, 4

## MCZ1210AH900L2_3
designator L?
footprint MCZ1210AH900L2
pins: 1, 2, 3, 4

## MOSFET N
designator Q?
footprint SOT23
pins: 1 GATE (in), 2 SOURCE, 3 DRAIN

## MOSFET P
designator Q?
footprint SOT23
pins: 1 GATE, 2 SOURCE, 3 DRAIN

## MP2610_0
designator U?
pins: A1 B1 (hiz), A2 VCCB (power), A3 A1 (hiz), B1 B2 (hiz), B2 VCCA (power), B3 A2 (hiz), C1 B3 (io), C2 OE (in), C3 A3 (hiz), D1 B4 (hiz), D2 GND (power), D3 A4 (in)

## MP3302_0
designator U?
footprint sot23-6
pins: 1 SW, 2 GND, 3 FB, 4 EN, 5 VOUT, 6 IN

## MP8759_6
designator U?
footprint QFN12_2R00X3R00X1R00
pins: 1 VIN, 2 PGND, 3 PG, 4 NC, 5 VOUT, 6 MODE, 7 SW, 8 BST, 9 VCC, 10 AGND, 11 FB, 12 EN

## NPN
designator Q?
pins: 1 BASE, 2 EMITTER, 3 COLLECTOR

## PHONEJACK STEREO SW_0
designator J?
pins: 2 DH, 3 R, 4 L, 5 D, 6 HP, 7 NC2

## R0402_0
designator R?
footprint R0603
pins: 1, 2

## R / 0 / ohm / 0201_0
designator R?
footprint R0201
pins: 1, 2

## R_0
designator R?
pins: 1, 2

## radxa_1010
designator *  Page Size: A  Page Number: 1  (hidden comment: *)  (graphical)
Page Create Date: March  8, 1995; RevCode: ?; Page Count: 1; Page Modify Date: =Date
text: Size; Title:; REV; Page Name:; Date:; Sheet; of

## RES_0603
designator R?
footprint R0603
pins: 1, 2

## RESISTOR
designator R?
pins: 1, 2

## RESISTOR_0
designator R?
footprint R0402
pins: 1, 2

## RESISTOR_0_1
designator R?
footprint R0402
pins: 1, 2

## RESISTOR_0_Dup1
designator R?
footprint R0402
pins: 1, 2

## RESISTOR_0_Dup2
designator R?
footprint R0402
pins: 1, 2

## RESISTOR_0_Dup3
designator R?
footprint R0402
pins: 1, 2

## RESISTOR_0_Dup4
designator R?
footprint R0402
pins: 1, 2

## RESISTOR_1
designator R?
footprint R0402
pins: 1, 2

## RESISTOR_1_1
designator R?
footprint R0402
pins: 1, 2

## RESISTOR_1_Dup1
designator R?
footprint R0402
pins: 1, 2

## RESISTOR_1_Dup2
designator R?
pins: 1, 2

## RESISTOR_2
designator R?
footprint R0402
pins: 1, 2

## RESISTOR_3
designator R?
footprint R0402
pins: 1, 2

## RTC_HYM8563
designator U?
pins: 1 OSCI, 2 OSCO, 3 ~{INT}, 4 VSS, 5 SDA, 6 SCL, 7 CLKOUT, 8 VDD

## SD_SOCKET_0
designator U?
pins: 1 DATA2, 2 CD/DATA3, 3 CMD, 4 VDD, 5 CLK, 6 VSS, 7 DATA0, 8 DATA1, 9 CD, 10 G1, 11 G2, 12 G3, 13 G4

## SWITCH_SY6280
designator U?
pins: 1 VOUT, 2 GND, 3 OCB, 4 EN, 5 IN

## TESTPOINT1
designator TP?  (value not drawn)
footprint TEST
pins: 1

## TP
designator TP?
footprint TEST
pins: 1

## TVS
designator D?
footprint E0402N
pins: 1, 2

## USB30_TYPE_A
designator USB?
footprint USB30
pins: 1 VBUS (power), 2 D-, 3 D+, 4 GND (power), 5 RX-, 6 RX+, 7 GND (power), 8 TX-, 9 TX+, 10 SHELL1, 11 SHELL2

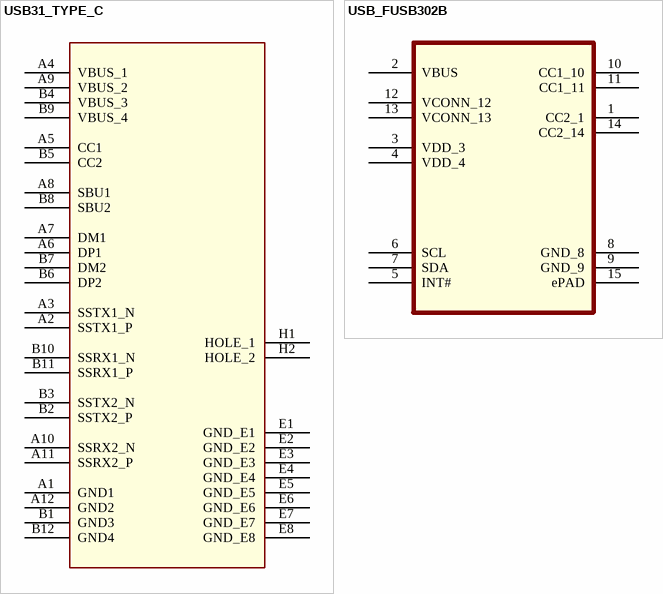
[diagram p7: symbols USB31_TYPE_C to USB_FUSB302B]

## USB31_TYPE_C
designator J?
pins: A1 GND1, A2 SSTX1_P, A3 SSTX1_N, A4 VBUS_1, A5 CC1, A6 DP1, A7 DM1, A8 SBU1, A9 VBUS_2, A10 SSRX2_N, A11 SSRX2_P, A12 GND2, B1 GND3, B2 SSTX2_P, B3 SSTX2_N, B4 VBUS_3, B5 CC2, B6 DP2, B7 DM2, B8 SBU2, B9 VBUS_4, B10 SSRX1_N, B11 SSRX1_P, B12 GND4, E1 GND_E1, E2 GND_E2, E3 GND_E3, E4 GND_E4, E5 GND_E5, E6 GND_E6, E7 GND_E7, E8 GND_E8, H1 HOLE_1, H2 HOLE_2

## USB_FUSB302B
designator U?
footprint MLP14_2R50X2R50X0R80
pins: 1 CC2_1, 2 VBUS, 3 VDD_3 (power), 4 VDD_4 (power), 5 INT#, 6 SCL, 7 SDA, 8 GND_8 (power), 9 GND_9 (power), 10 CC1_10, 11 CC1_11, 12 VCONN_12, 13 VCONN_13, 14 CC2_14, 15 ePAD (power)